# EAGLE library part POT-16MM-FRONT-DUAL (library ganzlib)
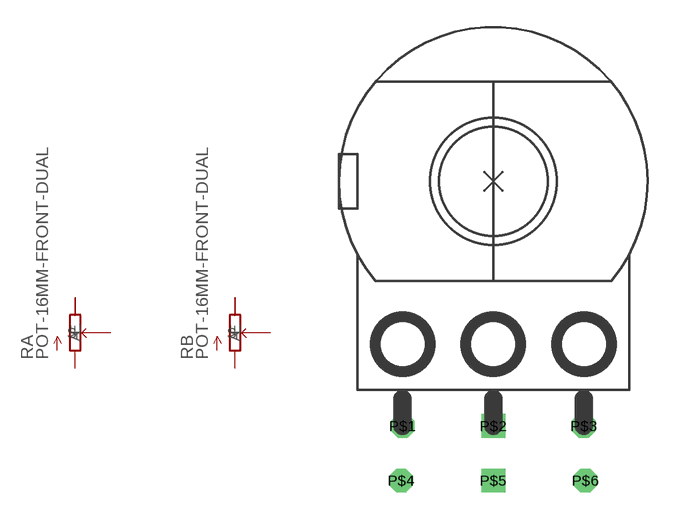
[diagram p0: symbol with the pads of POT-16-FRONT-DUAL; footprint POT-16-FRONT-DUAL]

Designator prefix R; gates A=POT B=POT

## POT-16MM-FRONT-DUAL  [POT-16-FRONT-DUAL]
P$1  A:E  pas
P$2  A:S  pas
P$3  A:A  pas
P$4  B:E  pas
P$5  B:S  pas
P$6  B:A  pas

## Footprint POT-16-FRONT-DUAL (pad centres in mm)
drill 0.8 octagon: P$1 -5,-13.5; P$3 5,-13.5; P$4 -5.08,-16.51; P$6 5.08,-16.51
drill 0.8 square: P$2 0,-13.5; P$5 0,-16.51